# EAGLE library part LED-RGB-10W-MODULAR (library Protofusion)
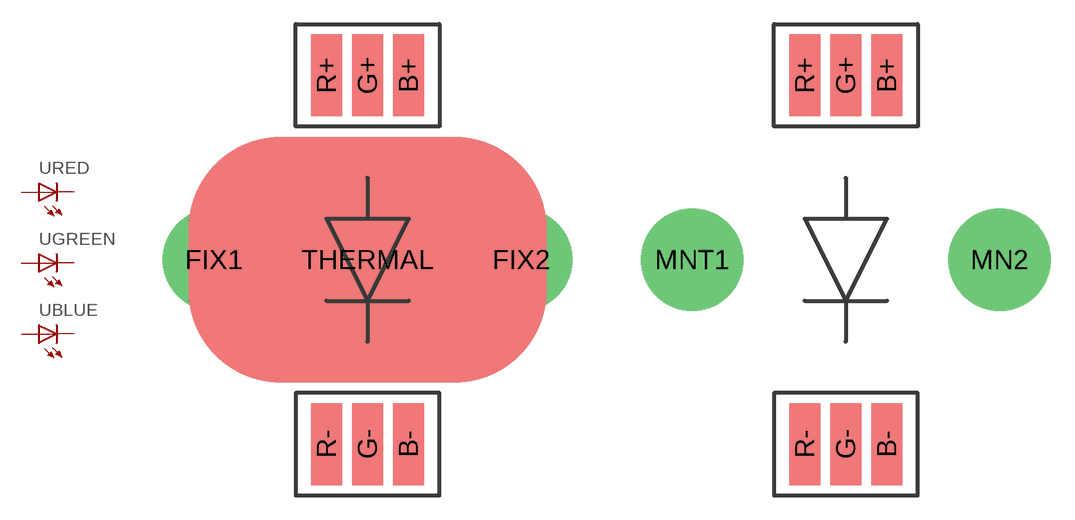
[diagram p4: symbol with the pads of LED-SMD-10W-DX; footprints LED-SMD-10W-DX, LED-SMD-10W-DX-STOPONLY]

Designator prefix -; gates RED=LED GREEN=LED BLUE=LED

## LED-RGB-10W-MODULARWITHCOPPER  [LED-SMD-10W-DX]
B+  BLUE:R+  pas
B-  BLUE:R-  pas
G+  GREEN:R+  pas
G-  GREEN:R-  pas
R+  RED:R+  pas
R-  RED:R-  pas

## LED-RGB-10W-MODULARSTOPONLY  [LED-SMD-10W-DX-STOPONLY]
Pads as for LED-SMD-10W-DX

## Footprint LED-SMD-10W-DX (pad centres in mm)
smd 1.905 x 5.08: B+ 2.54,11.43; B- 2.54,-11.43; G+ 0,11.43; G- 0,-11.43; R+ -2.54,11.43; R- -2.54,-11.43
drill 2.286 pad 6.35: FIX1 -9.525,0; FIX2 9.525,0
smd 22.225 x 15.24: THERMAL 0,0

## Footprint LED-SMD-10W-DX-STOPONLY (pad centres in mm)
smd 1.905 x 5.08: B+ 2.54,11.43; B- 2.54,-11.43; G+ 0,11.43; G- 0,-11.43; R+ -2.54,11.43; R- -2.54,-11.43
drill 2.286 pad 6.35: MN2 9.525,0; MNT1 -9.525,0